# EAGLE library part MAX4622 (library 000001)
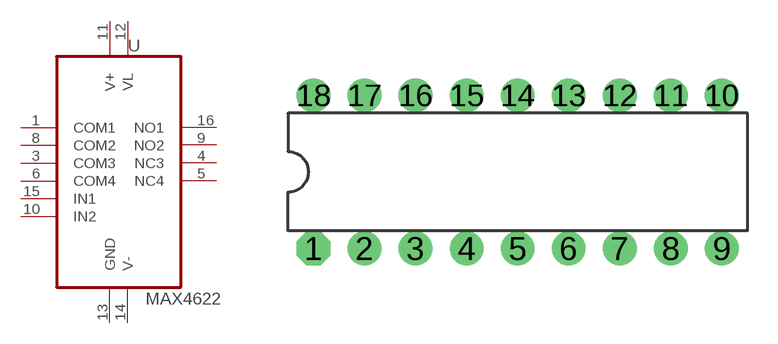
[diagram p21: symbol with the pads of DIL16; footprint DIL16]

Designator prefix -

## MAX4622  [DIL16]
1  COM1  pas
3  COM3  pas
4  NC3  pas
5  NC4  pas
6  COM4  pas
8  COM2  pas
9  NO2  pas
10  IN2  in
11  V+  pwr
12  VL  pwr
13  GND  pwr
14  V-  pwr
15  IN1  in
16  NO1  pas

## Footprint DIL16 (pad centres in mm)
Dual In Line Package
drill 0.5 pad 1.676 octagon: 1 -8.89,-3.81
drill 0.5 pad 1.676 round: 2 -6.35,-3.81; 3 -3.81,-3.81; 4 -1.27,-3.81; 5 1.27,-3.81; 6 3.81,-3.81; 7 6.35,-3.81; 8 8.89,-3.81; 9 11.43,-3.81; 10 11.43,3.81; 11 8.89,3.81; 12 6.35,3.81; 13 3.81,3.81; 14 1.27,3.81; 15 -1.27,3.81; 16 -3.81,3.81; 17 -6.35,3.81; 18 -8.89,3.81